# EAGLE library part TE-NC6-P108-10 (library lz-shield)
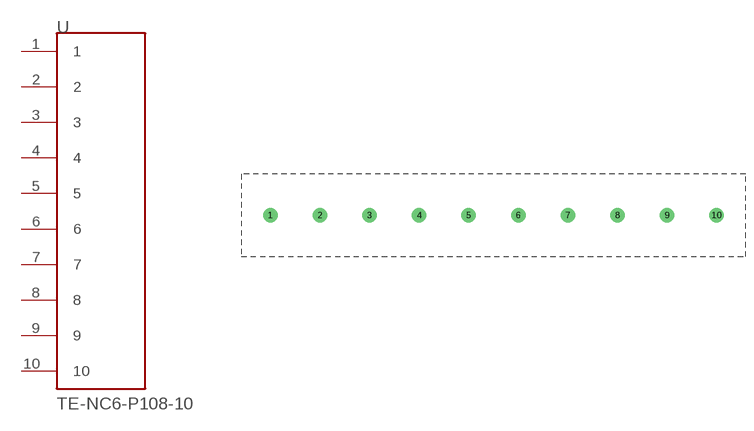
[diagram p0: symbol with the pads of 10PIN; footprint 10PIN]

Designator prefix -

## TE-NC6-P108-10  [10PIN]
1  1  pas
2  2  pas
3  3  pas
4  4  pas
5  5  pas
6  6  pas
7  7  pas
8  8  pas
9  9  pas
10  10  pas

## Footprint 10PIN (pad centres in mm)
drill 1.854: 1 5.588,7.938; 2 15.113,7.938; 3 24.638,7.938; 4 34.163,7.938; 5 43.688,7.938; 6 53.213,7.938; 7 62.738,7.938; 8 72.263,7.938; 9 81.788,7.938; 10 91.313,7.938